# EAGLE library part 53261-0471 (library con-Molex)
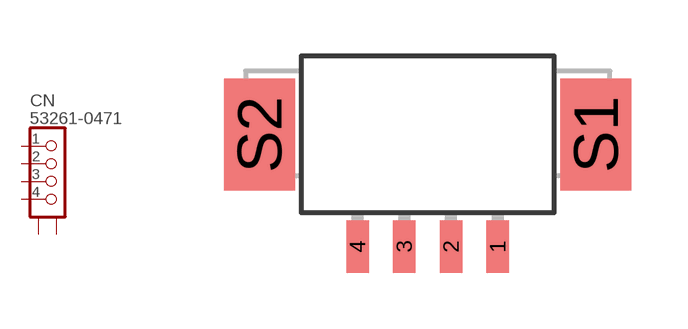
[diagram p5: symbol with the pads of 53261-04; footprint 53261-04]

Designator prefix CN

## 53261-0471  [53261-04]
1  1  pas
2  2  pas
3  3  pas
4  4  pas
S1  S1  pas
S2  S2  pas

## Footprint 53261-04 (pad centres in mm)
smd 0.6 x 1.4: 1 1.875,-1.9; 2 0.625,-1.9; 3 -0.625,-1.9; 4 -1.875,-1.9
smd 1.9 x 3: S1 4.5,1.1; S2 -4.5,1.1